# EAGLE library part MB1010-LV (library MB1010-Lv)
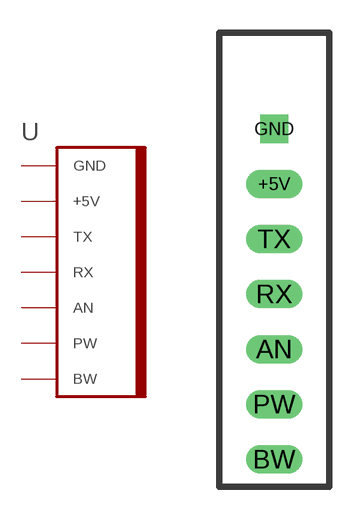
[diagram p0: symbol with the pads of MB1010LV; footprint MB1010LV]

Designator prefix -

## MB1010-LV  [MB1010LV]
+5V  +5V  sup
AN  AN  out
BW  BW  out
GND  GND  sup
PW  PW  out
RX  RX  in
TX  TX  out

## Footprint MB1010LV (pad centres in mm)
Features • Continuously variable gain for beam control and side lobe suppression • Object detection includes zero range objects • 2.5V to 5.5V supply with 2mA typical current draw • Readings can occur up to every 50mS, (20-Hz rate) • Free run operation can continually measure and output range information • Triggered operation provides the range reading as desired • All interfaces are active simultaneously • Serial, 0 to Vcc, 9600Baud, 81N • Analog, (Vcc/512) / inch • Pulse width, (147uS/inch) • Learns ringdown pattern when commanded to start ranging • Designed for protected indoor environments • Sensor operates at 42KHz • High output square wave sensor drive (double Vcc)
drill 0.8 long: +5V 0,7.62; AN 0,0; BW 0,-5.08; PW 0,-2.54; RX 0,2.54; TX 0,5.08
drill 0.8 square: GND 0,10.16